# Altium footprint library PcbLib1.PcbLib: 35 footprints (part 2 of 3)
Each footprint in its own frame and in the unit in brackets; x right, y up, seen from the top. Pads: shape width x height; smd on the part's side, far side on the other; paste and mask are expansions set on the pad; w line width, h text height; cw(c..) or ccw(c..) is an arc to the next point about the centre after c.
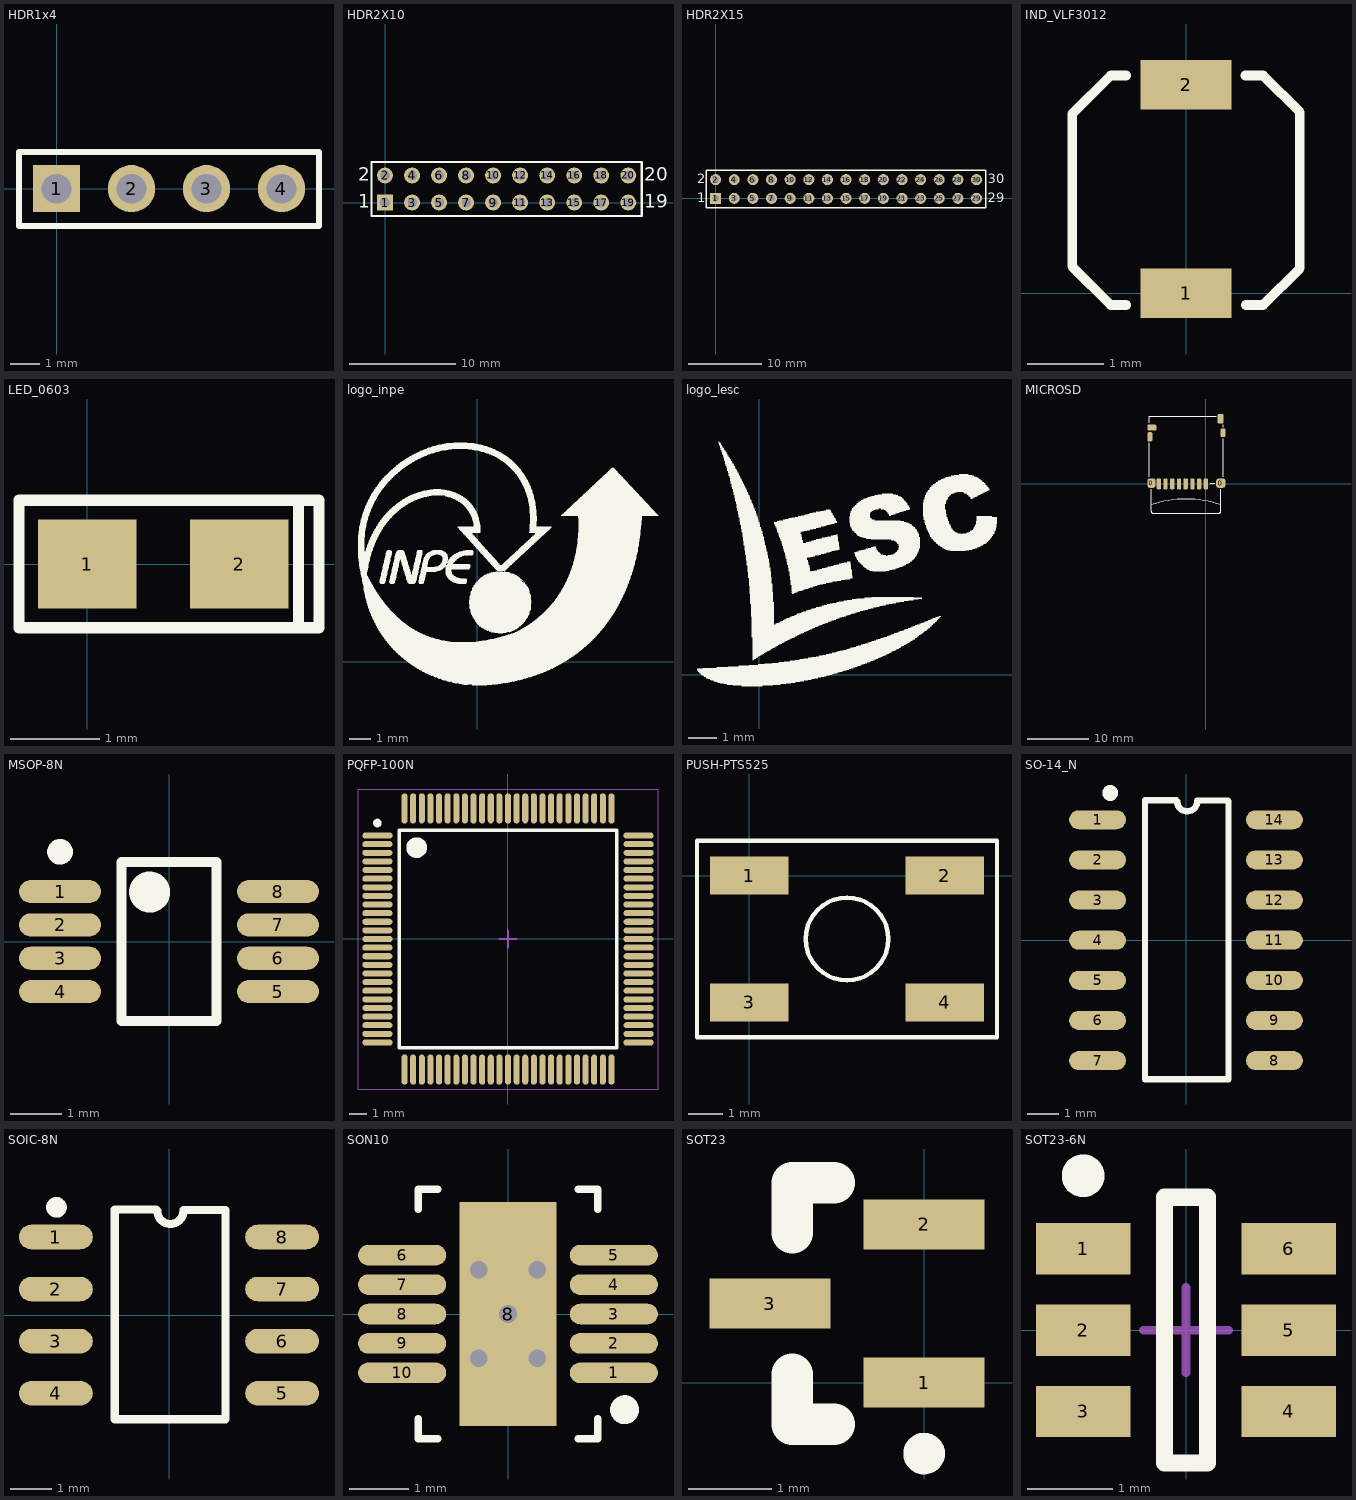
[diagram p1: the footprints below, top view; thin cyan lines are the x and y axes]

## HDR1x4 [mm] "Connector; Header; 4x1 Position"
pads (4):
  rect 1.6x1.6 hole 1: 1(0,0)
  round 1.6 hole 1: 2(2.54,0) 3(5.08,0) 4(7.62,0)
Top Overlay:
  lines w0.2: 8.89,-1.27 0.635,-1.27 -1.27,-1.27 -1.27,1.245 8.89,1.245 8.89,-1.245

## HDR2X10 [mm] "Connector; Header; 10x2 Position"
pads (20):
  rect 1.5x1.5 hole 0.9: 1(0,0)
  round 1.5 hole 0.9: 2(0,2.54) 3(2.54,0) 4(2.54,2.54) 5(5.08,0) 6(5.08,2.54) 7(7.62,0) 8(7.62,2.54) 9(10.16,0) 10(10.16,2.54) 11(12.7,0) 12(12.7,2.54) 13(15.24,0) 14(15.24,2.54) 15(17.78,0) 16(17.78,2.54) 17(20.32,0) 18(20.32,2.54) 19(22.86,0) 20(22.86,2.54)
Top Overlay:
  lines w0.2: -1.27,-1.27 0.635,-1.27 24.13,-1.27 24.13,3.81 0.635,3.81 -1.27,3.81 -1.27,-1.27
  text "20" at 24.384,2.032 h1.27
  text "19" at 24.384,-0.508 h1.27
  text "1" at -2.54,-0.508 h1.27
  text "2" at -2.54,2.032 h1.27

## HDR2X15 [mm] "Connector; Header; 15x2 Position"
pads (30):
  rect 1.5x1.5 hole 0.9: 1(0,0)
  round 1.5 hole 0.9: 2(0,2.54) 3(2.54,0) 4(2.54,2.54) 5(5.08,0) 6(5.08,2.54) 7(7.62,0) 8(7.62,2.54) 9(10.16,0) 10(10.16,2.54) 11(12.7,0) 12(12.7,2.54) 13(15.24,0) 14(15.24,2.54) 15(17.78,0) 16(17.78,2.54) 17(20.32,0) 18(20.32,2.54) 19(22.86,0) 20(22.86,2.54) 21(25.4,0) 22(25.4,2.54) 23(27.94,0) 24(27.94,2.54) 25(30.48,0) 26(30.48,2.54) 27(33.02,0) 28(33.02,2.54) 29(35.56,0) 30(35.56,2.54)
Top Overlay:
  lines w0.2: -1.27,-1.27 0.635,-1.27 36.83,-1.27 36.83,3.81 0.635,3.81 -1.27,3.81 -1.27,-1.27
  text "1" at -2.54,-0.508 h1.27
  text "2" at -2.54,2.032 h1.27
  text "29" at 37.084,-0.508 h1.27
  text "30" at 37.084,2.032 h1.27

## IND_VLF3012 [mm] "Inductor TDK  VLF3012 series"
height 0.03
pads (2):
  rect 1.2x0.65 smd: 1(0,0) 2(0,2.75)
Top Overlay:
  lines w0.127: -0.787,-0.152 -0.991,-0.152 -1.499,0.356 -1.499,2.362 -0.991,2.87 -0.787,2.87 ; 0.782,2.87 0.985,2.87 ; 0.787,-0.152 1.016,-0.152 1.499,0.33 1.499,2.388 1.016,2.87

## LED_0603 [mm] "LED 0603"
height 1
pads (2):
  rect 1.1x1 smd: 1(0,0) 2(1.7,0)
Top Overlay:
  lines w0.127: 2.362,-0.711 2.362,0.711 ; -0.762,-0.711 2.591,-0.711 2.591,0.711 -0.762,0.711 -0.762,-0.711
3D body "User Library-SMD LED 0603.step": height 0.38, standoff -0.01, extent 0.089,-0.425 1.689,0.375

## logo_inpe [mm]
Top Overlay:
  drawing of 8 lines, arcs and shapes, not listed

## logo_lesc [mm]
Top Overlay:
  drawing of 5 lines, arcs and shapes, not listed

## MICROSD [mm]
pads (14):
  rrect50% 0.8x1.5 smd: 0(-9.15,7.725)
  rrect50% 1.3x1.5 smd: 0(-8.9,0.125)
  rrect50% 1.5x1.5 smd: 0(2.45,0.125)
  rrect50% 0.8x1.4 smd: 0(2.8,8.375)
  rrect50% 0.7x1.75 smd: 1(0,0) 2(-1.1,0) 3(-2.2,0) 4(-3.3,0) 5(-4.4,0) 6(-5.5,0) 7(-6.6,0) 8(-7.7,0)
  rrect50% 1x1.55 smd: A(2.4,10.675)
  rrect50% 1.45x1 smd: B(-8.825,9.225)
Top Overlay:
  lines w0.127: -9.224,1.143 -9.224,6.731 ; -9.224,10.033 -9.224,11.049 1.698,11.049 ; -8.97,-0.889 -8.97,-4.445 ccw(c-8.589,-4.445) -8.589,-4.826 2.079,-4.826 ccw(c2.079,-4.445) 2.46,-4.445 2.46,-0.889 ; -8.963,-3.431 cw(c-3.248,-20.068) 2.46,-3.429 ; 0.682,0.127 1.444,0.127 ; 2.841,1.143 2.841,7.366 ; 2.841,9.271 2.841,9.652
3D body "User Library-Micro_SD.step": height 1.6, standoff 0.63, extent -8.718,-4.731 2.282,10.269
3D body "DM3D-SF.stp": height 1.55, standoff 0, extent -9.154,-0.381 2.796,11.069

## MSOP-8N [mm] "TSOP, 8-Leads, Body 3,00x3,00mm, Pitch 0,65mm, IPC Medium Density"
height 1.1
pads (8):
  oval 1.6x0.45 smd: 1(-2.125,0.975) 2(-2.125,0.325) 3(-2.125,-0.325) 4(-2.125,-0.975) 5(2.125,-0.975) 6(2.125,-0.325) 7(2.125,0.325) 8(2.125,0.975)
Top Overlay:
  circle w0.25: c-2.125,1.75 r0.125
  circle w0.4: c-0.378,0.965 r0.2
  lines w0.2: -0.925,-1.55 -0.925,1.55 0.925,1.55 0.925,-1.55 -0.925,-1.55
3D body "User Library-User Library-MSOP-8-1.step": height 0.92, standoff 0, extent -2.5,-1.5 2.5,1.5

## PQFP-100N [mm] "PQFP, 100-Leads, Body 14,00x14,00mm, Pitch 0,50mm, IPC Medium Density"
height 1.6
pads (100):
  oval 1.75x0.35 smd: 1(-7.575,6) 2(-7.575,5.5) 3(-7.575,5) 4(-7.575,4.5) 5(-7.575,4) 6(-7.575,3.5) 7(-7.575,3) 8(-7.575,2.5) 9(-7.575,2) 10(-7.575,1.5) 11(-7.575,1) 12(-7.575,0.5) 13(-7.575,0) 14(-7.575,-0.5) 15(-7.575,-1) 16(-7.575,-1.5) 17(-7.575,-2) 18(-7.575,-2.5) 19(-7.575,-3) 20(-7.575,-3.5) 21(-7.575,-4) 22(-7.575,-4.5) 23(-7.575,-5) 24(-7.575,-5.5) 25(-7.575,-6) 51(7.575,-6) 52(7.575,-5.5) 53(7.575,-5) 54(7.575,-4.5) 55(7.575,-4) 56(7.575,-3.5) 57(7.575,-3) 58(7.575,-2.5) 59(7.575,-2) 60(7.575,-1.5) 61(7.575,-1) 62(7.575,-0.5) 63(7.575,0) 64(7.575,0.5) 65(7.575,1) 66(7.575,1.5) 67(7.575,2) 68(7.575,2.5) 69(7.575,3) 70(7.575,3.5) 71(7.575,4) 72(7.575,4.5) 73(7.575,5) 74(7.575,5.5) 75(7.575,6)
  oval 0.35x1.75 smd: 26(-6,-7.575) 27(-5.5,-7.575) 28(-5,-7.575) 29(-4.5,-7.575) 30(-4,-7.575) 31(-3.5,-7.575) 32(-3,-7.575) 33(-2.5,-7.575) 34(-2,-7.575) 35(-1.5,-7.575) 36(-1,-7.575) 37(-0.5,-7.575) 38(0,-7.575) 39(0.5,-7.575) 40(1,-7.575) 41(1.5,-7.575) 42(2,-7.575) 43(2.5,-7.575) 44(3,-7.575) 45(3.5,-7.575) 46(4,-7.575) 47(4.5,-7.575) 48(5,-7.575) 49(5.5,-7.575) 50(6,-7.575) 76(6,7.575) 77(5.5,7.575) 78(5,7.575) 79(4.5,7.575) 80(4,7.575) 81(3.5,7.575) 82(3,7.575) 83(2.5,7.575) 84(2,7.575) 85(1.5,7.575) 86(1,7.575) 87(0.5,7.575) 88(0,7.575) 89(-0.5,7.575) 90(-1,7.575) 91(-1.5,7.575) 92(-2,7.575) 93(-2.5,7.575) 94(-3,7.575) 95(-3.5,7.575) 96(-4,7.575) 97(-4.5,7.575) 98(-5,7.575) 99(-5.5,7.575) 100(-6,7.575)
Top Overlay:
  circle w0.25: c-7.575,6.725 r0.125
  circle w0.6: c-5.3,5.3 r0.3
  lines w0.2: -6.3,-6.3 -6.3,6.3 6.3,6.3 6.3,-6.3 -6.3,-6.3
Mechanical 15:
  lines w0.05: -8.7,-8.7 -8.7,8.7 8.7,8.7 8.7,-8.7 -8.7,-8.7
  lines w0.1: -0.5,0 0.5,0 ; 0,-0.5 0,0.5
3D body "SW3dPS-TQFP100-1.STEP": height 1.61, standoff -0.01, extent -8,-8 8,8

## PUSH-PTS525 [mm]
pads (4):
  rect 2.3x1.1 smd: 1(0,0) 2(5.7,0) 3(0,-3.7) 4(5.7,-3.7)
Top Overlay:
  circle w0.127: c2.85,-1.85 r1.205
  lines w0.127: -1.524,-4.716 -1.524,1.016 7.224,1.016 7.224,-4.716 -1.524,-4.716

## SO-14_N [mm] "SOIC, 14-Leads, Body 8.7x3.9mm, Pitch 1.27mm, IPC Medium Density"
height 1.75
pads (14):
  oval 1.8x0.6 smd: 1(-2.8,3.81) 2(-2.8,2.54) 3(-2.8,1.27) 4(-2.8,0) 5(-2.8,-1.27) 6(-2.8,-2.54) 7(-2.8,-3.81) 8(2.8,-3.81) 9(2.8,-2.54) 10(2.8,-1.27) 11(2.8,0) 12(2.8,1.27) 13(2.8,2.54) 14(2.8,3.81)
Top Overlay:
  circle w0.25: c-2.4,4.66 r0.125
  lines w0.2: -0.305,4.432 -1.295,4.432 -1.295,-4.4 1.346,-4.4 1.346,4.4 1.327,4.42 0.356,4.42 ; -0.28,4.394 ccw(c0.038,4.394) 0.356,4.394
3D body "User Library-so14-2.step": height 1.73, standoff -0.04, extent -3.068,-4.35 3.068,4.35

## SOIC-8N [mm]
pads (8):
  oval 1.8x0.6 smd mask+0.076: 1(-2.76,1.905) 2(-2.76,0.635) 3(-2.76,-0.635) 4(-2.76,-1.905) 5(2.76,-1.905) 6(2.76,-0.635) 7(2.76,0.635) 8(2.76,1.905)
Top Overlay:
  circle w0.254: c-2.745,2.629 r0.125
  lines w0.2: -0.309,2.578 -1.325,2.578 -1.325,-2.54 1.38,-2.54 1.38,2.565 0.352,2.565 ; -0.284,2.54 ccw(c0.034,2.54) 0.352,2.54
3D body "SOIC8.step": height 1.7, standoff -0.04, extent -3.067,-2.54 3.135,2.46

## SON10 [mm]
pads (11):
  oval 1.5x0.35 smd: 1(1.8,-1) 2(1.8,-0.5) 3(1.8,0) 4(1.8,0.5) 5(1.8,1) 6(-1.8,1) 7(-1.8,0.5) 8(-1.8,0) 9(-1.8,-0.5) 10(-1.8,-1)
  rect 1.65x3.8 smd: 8(0,0)
via 0.5,-0.75 diameter 0.45 hole 0.3
via -0.5,-0.75 diameter 0.45 hole 0.3
via 0.5,0.75 diameter 0.45 hole 0.3
via -0.5,0.75 diameter 0.45 hole 0.3
via 0,0 diameter 0.45 hole 0.3
Top Overlay:
  circle w0.254: c1.983,-1.627 r0.119
  lines w0.127: -1.527,1.778 -1.527,2.118 -1.197,2.118 ; -1.524,-1.778 -1.527,-2.118 -1.197,-2.118 ; 1.197,-2.118 1.527,-2.118 1.527,-1.778 ; 1.197,2.118 1.527,2.118 1.527,1.778
3D body "User Library-DRC (S-PVSON-N10)-1.STEP": height 1, standoff 0, extent -1.575,-1.575 1.575,1.575

## SOT23 [mm]
pads (3):
  rect 1.45x0.6 smd: 1(0,0) 2(0,1.9) 3(-1.85,0.95)
Top Overlay:
  circle w0.25: c0,-0.85 r0.125
  lines w0.5: -1.58,0.1 -1.58,-0.5 -1.08,-0.5 ; -1.58,1.8 -1.58,2.4 -1.08,2.4
3D body "SOT-23.step": height 0.98, standoff -0.01, extent -2.075,-0.498 0.345,2.398

## SOT23-6N [mm] "SOT23, 6-Leads, Body 2,90x2,80mm, Pitch 0,95mm, IPC Medium Density"
height 1.45
pads (6):
  rect 1.1x0.6 smd: 1(-1.2,0.95) 2(-1.2,0) 3(-1.2,-0.95) 4(1.2,-0.95) 5(1.2,0) 6(1.2,0.95)
Top Overlay:
  circle w0.25: c-1.2,1.8 r0.125
  lines w0.2: -0.25,-1.55 -0.25,1.55 0.25,1.55 0.25,-1.55 -0.25,-1.55
Mechanical 15:
  lines w0.1: -0.5,0 0.5,0 ; 0,-0.5 0,0.5
3D body "User Library-sot236.step": height 1, standoff 0, extent -1.17,-1.435 1.17,1.485